# Altium footprint library PcbLib1.PcbLib: 48 footprints (part 1 of 3)
Each footprint in its own frame and in the unit in brackets; x right, y up, seen from the top. Pads: shape width x height; smd on the part's side, far side on the other; paste and mask are expansions set on the pad; w line width, h text height; cw(c..) or ccw(c..) is an arc to the next point about the centre after c.
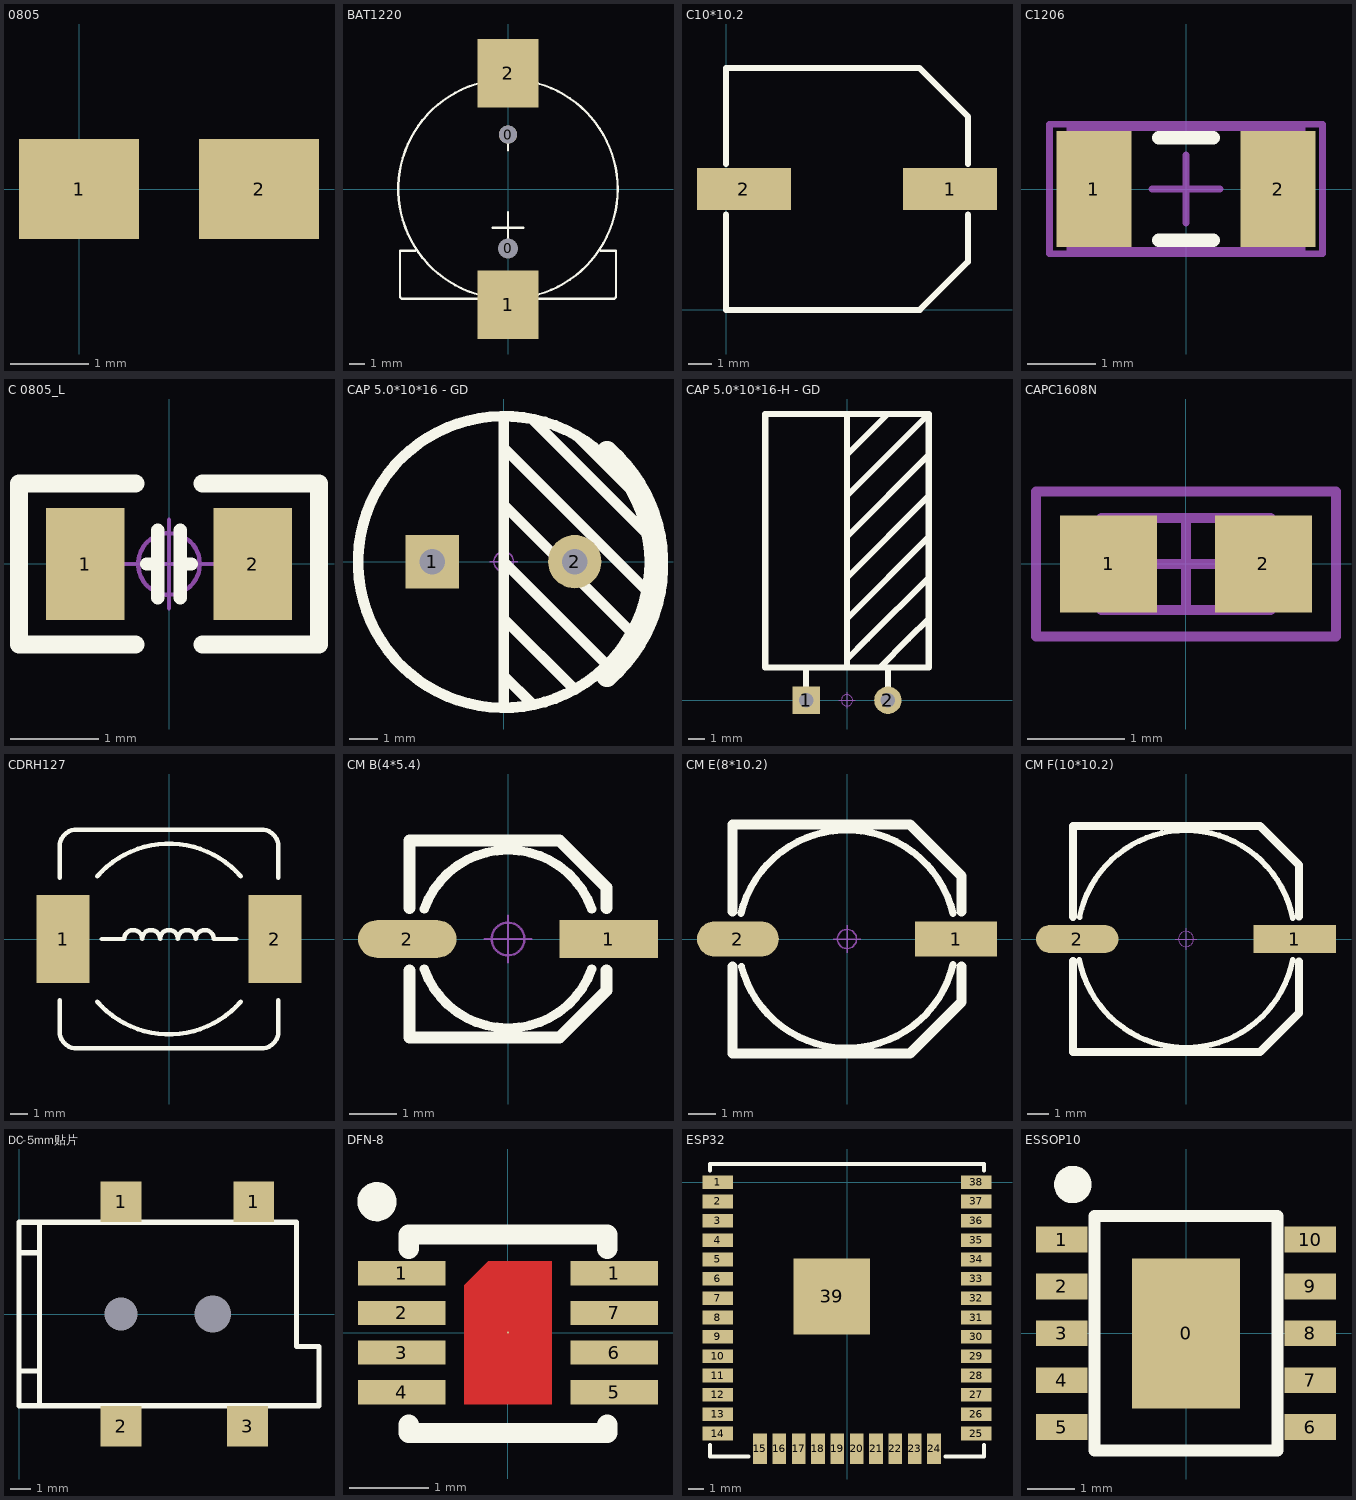
[diagram p0: the footprints below, top view; thin cyan lines are the x and y axes]

## 0805 [mil]
pads (2):
  rect 60x50 smd: 1(0,0) 2(90,0)

## BAT1220 [mm]
pads (4):
  round 1.2 hole 1.3 unplated: 0(0,-3.886)
  round 1.2 hole 1.2 unplated: 0(0,3.607)
  rect 4x4.5 smd: 1(0,-7.595) 2(0,7.645)
Top Overlay:
  circle w0.152: c0,0.025 r7.22
  lines w0.152: -6.096,-4.039 -7.112,-4.039 -7.112,-7.087 -7.004,-7.195 0,-7.195 7.004,-7.195 7.112,-7.087 7.112,-4.039 6.096,-4.039 ; -1.016,-2.515 1.016,-2.515 ; 0,-3.531 0,-1.499 ; 0,2.565 0,4.089

## C10*10.2 [mm]
pads (2):
  rect 4x1.8 smd: 1(9.538,5.15) 2(0.762,5.15)
Top Overlay:
  lines w0.254: 0,4.064 0,0 8.255,0 10.3,2.045 10.3,4.064 ; 0,6.223 0,10.3 8.242,10.3 10.3,8.242 10.3,6.223

## C1206 [mm]
pads (2):
  rect 1.1x1.7 smd: 1(-1.35,0) 2(1.35,0)
Top Overlay:
  lines w0.2: -0.4,-0.75 0.4,-0.75 ; -0.4,0.75 0.4,0.75
Mechanical 13:
  lines w0.1: -1.7,-0.9 -1.7,0.9 1.7,0.9 1.7,-0.9 -1.7,-0.9
Mechanical 15:
  lines w0.1: -0.5,0 0.5,0 ; 0,-0.5 0,0.5 ; -2,-0.95 -2,0.95 2,0.95 2,-0.95 -2,-0.95
3D body: height 1.3, standoff 0, extent -1.7,-0.9 1.7,0.9

## C 0805_L [mil] "无极性贴片电容                                        淘宝ID:黄晶宝石"
height 19.68
pads (2):
  rect 35x50 smd: 1(-37.4,0) 2(37.4,0)
Top Overlay:
  lines w6: -10,0 -5,0 ; -5,-15 -5,15 ; 5,-15 5,15 ; 5,0 10,0
  lines w8: -15,-36 -66.93,-36 -66.93,36 -15,36 ; 15,-36 66.93,-36 66.93,36 15,36
Mechanical 15:
  circle w1.97: c0,0 r13.78
  circle w1.97: c0,0 r13.78
  lines w1.97: -19.68,0 19.68,0 -19.68,0 ; 0,-19.68 0,19.68 0,-19.68
3D body "C 0805.STEP": height 20.08, standoff -0.39, extent -39.37,-24.02 39.37,24.02

## CAP 5.0*10*16 - GD [mm] "脚距5mm直径10mm高度16mm"
pads (2):
  rect 1.9x1.9 hole 0.9: 1(-2.54,0)
  round 1.9 hole 0.9: 2(2.54,0)
Top Overlay:
  circle w0.381: c0.012,-0.013 r5.2
  lines w0.381: 0.006,0 3.562,-3.556 ; 0.012,-5.197 0.012,5.072 ; 0.012,-5.082 0.012,-5.075 ; 0.012,-4.064 0.012,-4.07 1.022,-5.08 ; 0.012,-3.054 0.012,-3.05 0.012,-3.043 ; 0.012,-2.032 0.012,-2.038 ; 0.012,1.01 0.012,1.016 ; 0.012,2.032 0.012,2.026 4.578,-2.54 ; 0.012,4.064 0.012,4.058 5.086,-1.016 ; 0.012,5.074 0.012,5.187 ; 1.022,5.08 5.086,1.016 ; 2.546,-4.572 0.012,-2.038 ; 2.673,4.445 4.578,2.54 ; 0.012,-2.038 0.012,-2.038
  lines w0.737: 3.689,-4.105 ccw(c0.159,-0.084) 3.689,3.937
Mechanical 15:
  circle w0.05: c0.006,0 r0.35
  lines w0.05: -0.494,0 0.506,0 ; 0.006,-0.5 0.006,0.5
3D body "CAP 5X10X16.STEP": height 16.04, standoff -3.37, extent -5,-5 5.01,5

## CAP 5.0*10*16-H - GD [mm] "脚距5mm直径10mm高度16mm"
pads (2):
  rect 1.7x1.7 hole 0.9: 1(-2.54,0)
  round 1.7 hole 0.9: 2(2.54,0)
Top Overlay:
  lines w0.381: -2.54,0.762 -2.54,1.778 -2.54,2.032 ; 0,2.032 0,2.54 ; 0,3.81 0,17.78 ; 0,4.064 0,2.54 ; 0,5.08 5.08,10.16 ; 0,7.62 5.08,12.7 ; 0,10.16 5.08,15.24 ; 0,12.7 5.08,17.78 ; 0,15.24 2.54,17.78 ; 2.032,2.032 3.81,3.81 5.08,5.08 ; 2.54,0.762 2.54,1.778 2.54,2.032 ; 5.08,7.62 1.27,3.81 0,2.54 ; 5.08,17.78 -5.08,17.78 -5.08,2.032 5.08,2.032 5.08,17.78
Mechanical 15:
  circle w0.05: c0,0 r0.35
  lines w0.05: -0.5,0 0.5,0 ; 0,-0.5 0,0.5
3D body "CAP 5X10X16-H.STEP": height 10.03, standoff -3.48, extent -5.04,-0.3 4.97,17.91

## CAPC1608N [mm]
pads (2):
  rect 1x1 smd: 1(-0.8,0) 2(0.8,0)
Mechanical 13:
  lines w0.1: -0.875,-0.475 0.875,-0.475 0.875,0.475 -0.875,0.475 -0.875,-0.475
Mechanical 15:
  lines w0.1: -0.475,0 0.475,0 ; 0,-0.475 0,0.475 ; -1.55,-0.75 1.55,-0.75 1.55,0.75 -1.55,0.75 -1.55,-0.75
3D body: height 0.85, standoff 0, extent -0.875,-0.475 0.875,0.475

## CDRH127 [mm] "12*12*8mm（长宽高）"
pads (2):
  rect 3x5 smd: 1(-6,0) 2(6,0)
Top Overlay:
  lines w0.254: -6.2,-3.475 -6.2,-5.23 ccw(c-5.23,-5.23) -5.23,-6.2 5.23,-6.2 ccw(c5.23,-5.23) 6.2,-5.23 6.2,-3.475 ; -6.2,3.475 -6.2,5.23 cw(c-5.23,5.23) -5.23,6.2 5.23,6.2 cw(c5.23,5.23) 6.2,5.23 6.2,3.475 ; -4.064,-3.556 ccw(c0,0) 4.064,-3.556 ; -4.064,3.556 cw(c0,0) 4.064,3.556 ; -3.81,0 -2.54,0 cw(c-2.032,0) -1.524,0 cw(c-1.016,0) -0.508,0 cw(c0,0) 0.508,0 cw(c1.016,0) 1.524,0 cw(c2.032,0) 2.54,0 3.81,0
3D body "CDRH127.STEP": height 7.8, standoff 0, extent -6,-6 6,6

## CM B(4*5.4) [mm] "贴片电解电容，直径4mm，高5.4mm"
pads (2):
  rect 2.1x0.8 smd: 1(2.15,0)
  oval 2.1x0.8 smd: 2(-2.15,0)
Top Overlay:
  lines w0.2: -1.789,-0.639 ccw(c0,0) 1.789,-0.639 ; -1.789,0.639 cw(c0,0) 1.789,0.639
  lines w0.254: -2.1,-0.67 -2.1,-2.1 1.1,-2.1 2.1,-1.1 2.1,-0.666 ; -2.1,0.662 -2.1,2.1 1.1,2.1 2.1,1.1 2.1,0.658
Mechanical 15:
  circle w0.05: c0,0 r0.35
  lines w0.05: -0.5,0 0.5,0 ; 0,-0.5 0,0.5
3D body "CM B(4X5.4).STEP": height 5.4, standoff -0.01, extent -2.3,-2.125 2.3,2.175

## CM E(8*10.2) [mm] "贴片电解电容，直径8mm，高10.2mm"
pads (2):
  rect 3x1.3 smd: 1(4,0)
  oval 3x1.3 smd: 2(-4,0)
Top Overlay:
  lines w0.254: -3.888,0.939 cw(c0,0) 3.888,0.939 ; -3.873,-1 ccw(c0,0) 3.888,-0.939
  lines w0.381: -4.2,-1.016 -4.2,-4.2 2.3,-4.2 4.2,-2.3 4.2,-1.016 ; -4.2,1.016 -4.2,4.2 2.3,4.2 4.2,2.3 4.2,1.016
Mechanical 15:
  circle w0.05: c0,0 r0.35
  lines w0.05: -0.5,0 0.5,0 ; 0,-0.5 0,0.5
3D body "CM E(8X10.2).STEP": height 10.2, standoff -0.01, extent -4.5,-4.15 4.5,4.15

## CM F(10*10.2) [mm] "贴片电解电容，直径10mm，高10.2mm"
pads (2):
  rect 3.8x1.3 smd: 1(5,0)
  oval 3.8x1.3 smd: 2(-5,0)
Top Overlay:
  lines w0.254: -4.907,-0.959 ccw(c0,0) 4.907,-0.958 ; -4.897,1.011 cw(c0,0) 4.908,0.957
  lines w0.381: -5.2,-1.013 -5.2,-5.2 3.404,-5.2 5.191,-3.413 ; -5.2,1.021 -5.2,5.2 3.404,5.2 5.2,3.404 5.2,1.039 ; 5.2,-3.404 5.2,-1.031
Mechanical 15:
  circle w0.05: c0,0 r0.35
  lines w0.05: -0.5,0 0.5,0 ; 0,-0.5 0,0.5
3D body "CM F(10X10.2).STEP": height 10.2, standoff -0.01, extent -5.8,-5.15 5.8,5.15

## DC-5mm贴片 [mm]
pads (6):
  round 0 hole 1.6 unplated: 0(5,0)
  round 0 hole 1.8 unplated: 0(9.5,0)
  rect 2x2 smd: 1(5,5.5) 1(11.5,5.5) 2(5,-5.5) 3(11.2,-5.5)
Top Overlay:
  lines w0.254: 0,-2.8 1,-2.8 ; 0,3 1,3 ; 1,-4.5 1,4.5 ; 0,-4.5 14.7,-4.5 14.7,-1.6 13.6,-1.6 13.6,4.5 0,4.5 0,-4.5

## DFN-8 [mm] "2.5x2.5x0.5"
height 0.9
pads (9):
  round 0.025 smd: 0(0,0)
  rect 1.1x0.305 smd: 1(-1.34,0.75) 1(1.34,0.75) 2(-1.34,0.25) 3(-1.34,-0.25) 4(-1.34,-0.75) 5(1.34,-0.75) 6(1.34,-0.25) 7(1.34,0.25)
Top Layer:
  region: -0.55,-0.9 0.55,-0.9 0.55,0.9 -0.248,0.9 -0.55,0.598
Top Overlay:
  circle w0.254: c-1.651,1.651 r0.12
  lines w0.254: -1.25,-1.156 -1.25,-1.262 1.25,-1.262 1.25,-1.156 ; -1.25,1.059 -1.25,1.237 1.25,1.239 ; 1.25,1.059 1.25,1.229

## ESP32 [mm]
pads (39):
  rect 2x0.9 smd: 1(-8.5,0) 2(-8.5,-1.27) 3(-8.5,-2.54) 4(-8.5,-3.81) 5(-8.5,-5.08) 6(-8.5,-6.35) 7(-8.5,-7.62) 8(-8.5,-8.89) 9(-8.5,-10.16) 10(-8.5,-11.43) 11(-8.5,-12.7) 12(-8.5,-13.97) 13(-8.5,-15.24) 14(-8.5,-16.51) 25(8.5,-16.51) 26(8.5,-15.24) 27(8.5,-13.97) 28(8.5,-12.7) 29(8.5,-11.43) 30(8.5,-10.16) 31(8.5,-8.89) 32(8.5,-7.62) 33(8.5,-6.35) 34(8.5,-5.08) 35(8.5,-3.81) 36(8.5,-2.54) 37(8.5,-1.27) 38(8.5,0)
  rect 0.9x2 smd: 15(-5.715,-17.51) 16(-4.445,-17.51) 17(-3.175,-17.51) 18(-1.905,-17.51) 19(-0.635,-17.51) 20(0.635,-17.51) 21(1.905,-17.51) 22(3.175,-17.51) 23(4.445,-17.51) 24(5.715,-17.51)
  rect 5x5 smd: 39(-1,-7.5)
Top Overlay:
  lines w0.254: -9,-17.272 -9,-18.01 -6.477,-18.01 ; -9,0.762 -9,1.19 9,1.19 9,0.762 ; 6.477,-18.01 9,-18.01 9,-17.272

## ESSOP10 [mm] "ESSOP3.9mm"
height 1.8
pads (11):
  rect 2.3x3.2 smd: 0(0,0)
  rect 1.1x0.55 smd: 1(-2.65,2) 2(-2.65,1) 3(-2.65,0) 4(-2.65,-1) 5(-2.65,-2) 6(2.65,-2) 7(2.65,-1) 8(2.65,0) 9(2.65,1) 10(2.65,2)
Top Overlay:
  circle w0.4: c-2.413,3.175 r0.2
  lines w0.254: -1.95,-2.5 1.95,-2.5 1.95,2.5 0,2.5 -1.95,2.5 -1.95,-2.5